# EAGLE library part ATMEGA406 (library avr_modified)
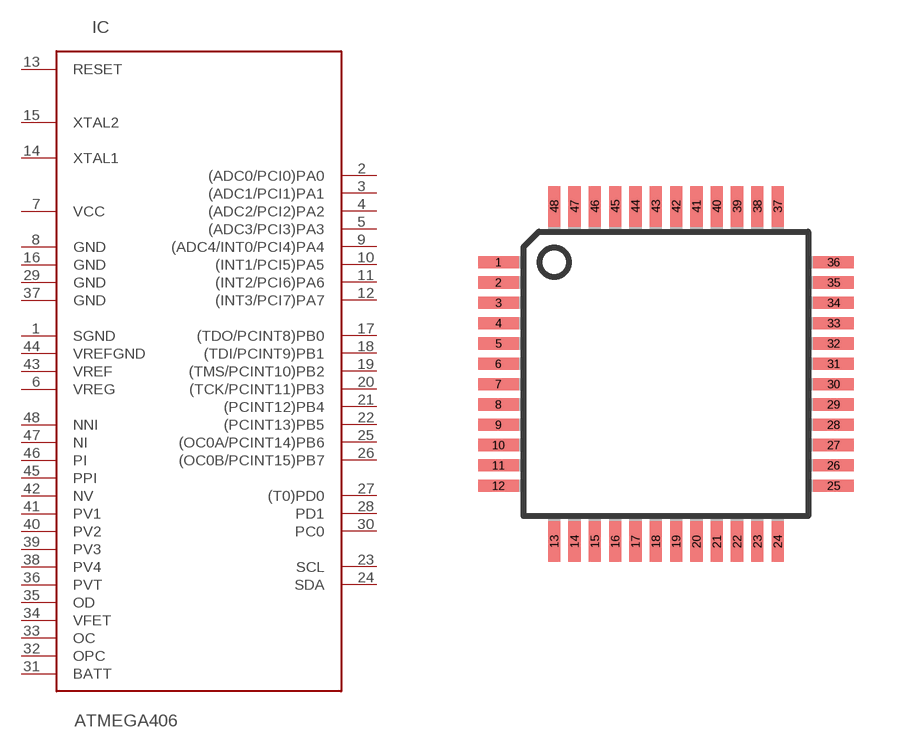
[diagram p80: symbol with the pads of TQFP48; footprint TQFP48]

Designator prefix IC

## ATMEGA406-1AAU  [TQFP48]
1  SGND
2  (ADC0/PCI0)PA0
3  (ADC1/PCI1)PA1
4  (ADC2/PCI2)PA2
5  (ADC3/PCI3)PA3
6  VREG
7  VCC  pwr
8  GND  pwr
9  (ADC4/INT0/PCI4)PA4
10  (INT1/PCI5)PA5
11  (INT2/PCI6)PA6
12  (INT3/PCI7)PA7
13  RESET
14  XTAL1
15  XTAL2
16  GND  pwr
17  (TDO/PCINT8)PB0
18  (TDI/PCINT9)PB1
19  (TMS/PCINT10)PB2
20  (TCK/PCINT11)PB3
21  (PCINT12)PB4
22  (PCINT13)PB5
23  SCL
24  SDA
25  (OC0A/PCINT14)PB6
26  (OC0B/PCINT15)PB7
27  (T0)PD0
28  PD1
29  GND  pwr
30  PC0
31  BATT
32  OPC
33  OC
34  VFET
35  OD
36  PVT
37  GND  pwr
38  PV4
39  PV3
40  PV2
41  PV1
42  NV
43  VREF
44  VREFGND
45  PPI
46  PI
47  NI
48  NNI

## Footprint TQFP48 (pad centres in mm)
Thin Plasic Quad Flat Package
smd 1.016 x 0.305: 1 -4.191,2.794; 2 -4.191,2.286; 3 -4.191,1.778; 4 -4.191,1.27; 5 -4.191,0.762; 6 -4.191,0.254; 7 -4.191,-0.254; 8 -4.191,-0.762; 9 -4.191,-1.27; 10 -4.191,-1.778; 11 -4.191,-2.286; 12 -4.191,-2.794; 25 4.191,-2.794; 26 4.191,-2.286; 27 4.191,-1.778; 28 4.191,-1.27; 29 4.191,-0.762; 30 4.191,-0.254; 31 4.191,0.254; 32 4.191,0.762; 33 4.191,1.27; 34 4.191,1.778; 35 4.191,2.286; 36 4.191,2.794
smd 0.305 x 1.016: 13 -2.794,-4.191; 14 -2.286,-4.191; 15 -1.778,-4.191; 16 -1.27,-4.191; 17 -0.762,-4.191; 18 -0.254,-4.191; 19 0.254,-4.191; 20 0.762,-4.191; 21 1.27,-4.191; 22 1.778,-4.191; 23 2.286,-4.191; 24 2.794,-4.191; 37 2.794,4.191; 38 2.286,4.191; 39 1.778,4.191; 40 1.27,4.191; 41 0.762,4.191; 42 0.254,4.191; 43 -0.254,4.191; 44 -0.762,4.191; 45 -1.27,4.191; 46 -1.778,4.191; 47 -2.286,4.191; 48 -2.794,4.191